# EAGLE library part ARIETTAG25/256 (library robot_insa_V1)
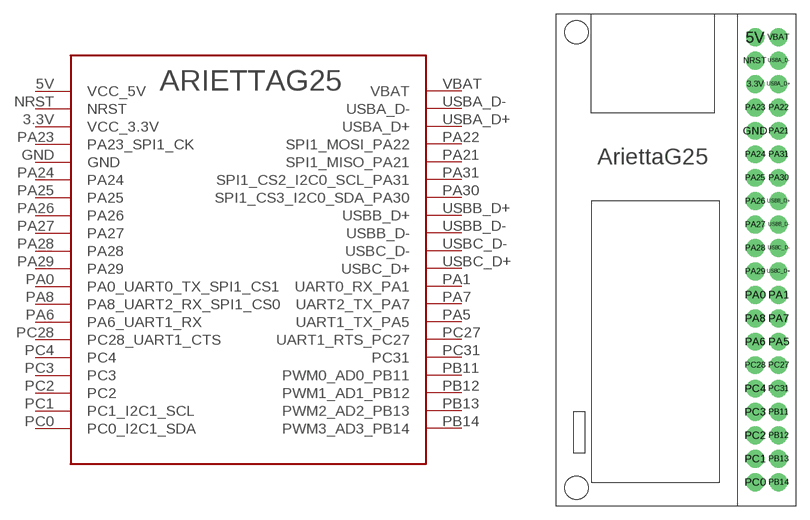
[diagram p1: symbol with the pads of ARIETTAG25; footprint ARIETTAG25]

Designator prefix -

## ARIETTAG25/256  [ARIETTAG25]
3.3V  VCC_3.3V
5V  VCC_5V  pwr
GND  GND  pwr
NRST  NRST
PA0  PA0_UART0_TX_SPI1_CS1
PA1  UART0_RX_PA1
PA5  UART1_TX_PA5
PA6  PA6_UART1_RX
PA7  UART2_TX_PA7
PA8  PA8_UART2_RX_SPI1_CS0
PA21  SPI1_MISO_PA21
PA22  SPI1_MOSI_PA22
PA23  PA23_SPI1_CK
PA24  PA24
PA25  PA25
PA26  PA26
PA27  PA27
PA28  PA28
PA29  PA29
PA30  SPI1_CS3_I2C0_SDA_PA30
PA31  SPI1_CS2_I2C0_SCL_PA31
PB11  PWM0_AD0_PB11
PB12  PWM1_AD1_PB12
PB13  PWM2_AD2_PB13
PB14  PWM3_AD3_PB14
PC0  PC0_I2C1_SDA
PC1  PC1_I2C1_SCL
PC2  PC2
PC3  PC3
PC4  PC4
PC27  UART1_RTS_PC27
PC28  PC28_UART1_CTS
PC31  PC31
USBA_D+  USBA_D+
USBA_D-  USBA_D-
USBB_D+  USBB_D+
USBB_D-  USBB_D-
USBC_D+  USBC_D+
USBC_D-  USBC_D-
VBAT  VBAT  pas

## Footprint ARIETTAG25 (pad centres in mm)
drill 1 pad 1.93: 3.3V 10.16,20.32; 5V 10.16,25.4; GND 10.16,15.24; NRST 10.16,22.86; PA0 10.16,-2.54; PA1 12.7,-2.54; PA5 12.7,-7.62; PA6 10.16,-7.62; PA7 12.7,-5.08; PA8 10.16,-5.08; PA21 12.7,15.24; PA22 12.7,17.78; PA23 10.16,17.78; PA24 10.16,12.7; PA25 10.16,10.16; PA26 10.16,7.62; PA27 10.16,5.08; PA28 10.16,2.54; PA29 10.16,0; PA30 12.7,10.16; PA31 12.7,12.7; PB11 12.7,-15.24; PB12 12.7,-17.78; PB13 12.7,-20.32; PB14 12.7,-22.86; PC0 10.16,-22.86; PC1 10.16,-20.32; PC2 10.16,-17.78; PC3 10.16,-15.24; PC4 10.16,-12.7; PC27 12.7,-10.16; PC28 10.16,-10.16; PC31 12.7,-12.7; USBA_D+ 12.7,20.32; USBA_D- 12.7,22.86; USBB_D+ 12.7,7.62; USBB_D- 12.7,5.08; USBC_D+ 12.7,0; USBC_D- 12.7,2.54; VBAT 12.7,25.4
hole 2.5 at -9.195,25.959
hole 2.5 at -9.195,-23.47